# EAGLE library part ADG704BRMZ (library MSA_lib)
CMOS Low Voltage 4 V, 4-Channel Multiplexer
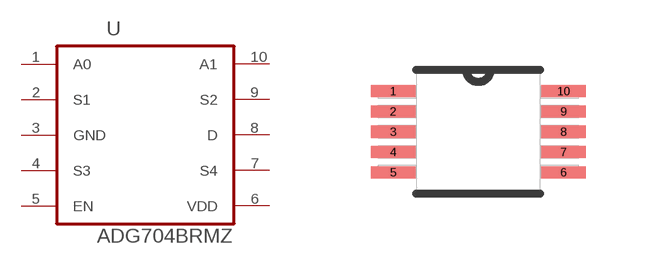
[diagram p19: symbol with the pads of SOP50P490X110-10N-ADG704; footprint SOP50P490X110-10N-ADG704]

Designator prefix U

## ADG704BRMZ (MPN: ADG704BRMZ; OC_FARNELL: 9425756; OC_NEWARK: 59K1493; PACKAGE: SOP-10; SUPPLIER: Analog Devices)  [SOP50P490X110-10N-ADG704]
1  A0  in
2  S1
3  GND  pas
4  S3
5  EN  in
6  VDD  pwr
7  S4
8  D
9  S2
10  A1  in

## Footprint SOP50P490X110-10N-ADG704 (pad centres in mm)
smd 1.118 x 0.305: 1 -2.134,1.016; 2 -2.134,0.508; 3 -2.134,0; 4 -2.134,-0.508; 5 -2.134,-1.016; 6 2.134,-1.016; 7 2.134,-0.508; 8 2.134,0; 9 2.134,0.508; 10 2.134,1.016